# EAGLE library part K-JACK-STEREO-635 (library elpp-v1.1)
Jack stereo, 6.35 mm
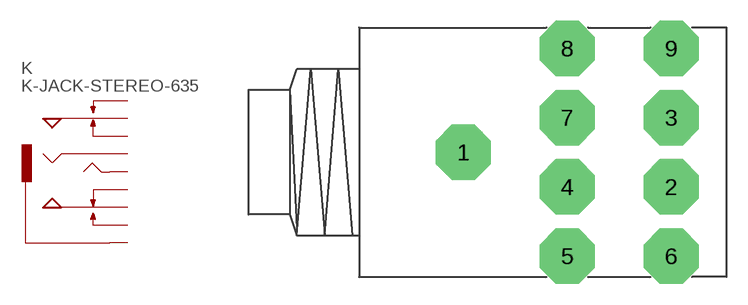
[diagram p49: symbol with the pads of EPP-JACK-635; footprint EPP-JACK-635]

Designator prefix K

## K-JACK-STEREO-635 (FARNELL: 1267402; RS: 2049114)  [EPP-JACK-635]
1  1  sup
2  2  sup
3  3  sup
4  4  sup
5  5  sup
6  6  sup
7  7  sup
8  8  sup
9  9  sup

## Footprint EPP-JACK-635 (pad centres in mm)
drill 2.5 pad 4 octagon: 1 -7.5,0; 2 7.5,-2.5; 3 7.5,2.5; 4 0,-2.5; 5 0,-7.5; 6 7.5,-7.5; 7 0,2.5; 8 0,7.5; 9 7.5,7.5